# Altium footprint library 44PW_L-UM.PcbLib: 1 footprints
Each footprint in its own frame and in the unit in brackets; x right, y up, seen from the top. Pads: shape width x height; smd on the part's side, far side on the other; paste and mask are expansions set on the pad; w line width, h text height; cw(c..) or ccw(c..) is an arc to the next point about the centre after c.
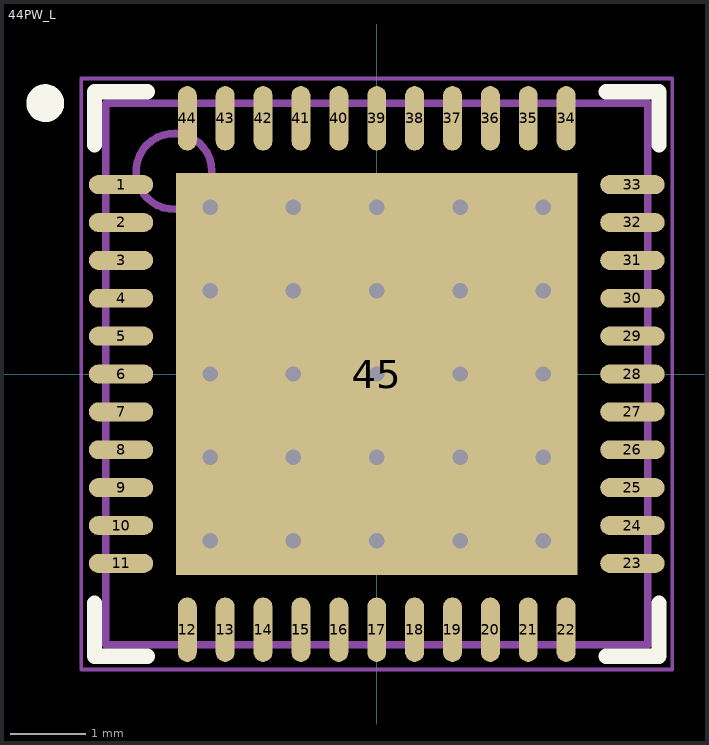
[diagram p0: the footprint, top view; thin cyan lines are the x and y axes]

## 44PW_L [mm] "QFN, 44-Leads, Body 7x7mm, Pitch 0.5mm, Thermal Pad 5.3x5.3mm, IPC High Density"
height 0.9
pads (45):
  oval 0.85x0.25 smd: 1(-3.375,2.5) 2(-3.375,2) 3(-3.375,1.5) 4(-3.375,1) 5(-3.375,0.5) 6(-3.375,0) 7(-3.375,-0.5) 8(-3.375,-1) 9(-3.375,-1.5) 10(-3.375,-2) 11(-3.375,-2.5) 23(3.375,-2.5) 24(3.375,-2) 25(3.375,-1.5) 26(3.375,-1) 27(3.375,-0.5) 28(3.375,0) 29(3.375,0.5) 30(3.375,1) 31(3.375,1.5) 32(3.375,2) 33(3.375,2.5)
  oval 0.25x0.85 smd: 12(-2.5,-3.375) 13(-2,-3.375) 14(-1.5,-3.375) 15(-1,-3.375) 16(-0.5,-3.375) 17(0,-3.375) 18(0.5,-3.375) 19(1,-3.375) 20(1.5,-3.375) 21(2,-3.375) 22(2.5,-3.375) 34(2.5,3.375) 35(2,3.375) 36(1.5,3.375) 37(1,3.375) 38(0.5,3.375) 39(0,3.375) 40(-0.5,3.375) 41(-1,3.375) 42(-1.5,3.375) 43(-2,3.375) 44(-2.5,3.375)
  rect 5.3x5.3 smd: 45(0,0)
via 2.2,-2.2 diameter 0.5 hole 0.203
via 1.1,-2.2 diameter 0.5 hole 0.203
via 0,-2.2 diameter 0.5 hole 0.203
via -1.1,-2.2 diameter 0.5 hole 0.203
via -2.2,-2.2 diameter 0.5 hole 0.203
via 2.2,-1.1 diameter 0.5 hole 0.203
via 1.1,-1.1 diameter 0.5 hole 0.203
via 0,-1.1 diameter 0.5 hole 0.203
via -1.1,-1.1 diameter 0.5 hole 0.203
via -2.2,-1.1 diameter 0.5 hole 0.203
via 2.2,0 diameter 0.5 hole 0.203
via 1.1,0 diameter 0.5 hole 0.203
via 0,0 diameter 0.5 hole 0.203
via -1.1,0 diameter 0.5 hole 0.203
via -2.2,0 diameter 0.5 hole 0.203
via 2.2,1.1 diameter 0.5 hole 0.203
via 1.1,1.1 diameter 0.5 hole 0.203
via 0,1.1 diameter 0.5 hole 0.203
via -1.1,1.1 diameter 0.5 hole 0.203
via -2.2,1.1 diameter 0.5 hole 0.203
via 2.2,2.2 diameter 0.5 hole 0.203
via 1.1,2.2 diameter 0.5 hole 0.203
via 0,2.2 diameter 0.5 hole 0.203
via -1.1,2.2 diameter 0.5 hole 0.203
via -2.2,2.2 diameter 0.5 hole 0.203
Top Overlay:
  circle w0.25: c-4.375,3.575 r0.125
  lines w0.2: -3.725,-3.025 -3.725,-3.725 -3.025,-3.725 ; -3.725,3.025 -3.725,3.725 -3.025,3.725 ; 3.025,-3.725 3.725,-3.725 3.725,-3.025 ; 3.025,3.725 3.725,3.725 3.725,3.025
Mechanical 13:
  circle w0.1: c-2.675,2.675 r0.5
  lines w0.1: -3.575,-3.575 3.575,-3.575 3.575,3.575 -3.575,3.575 -3.575,-3.575
Mechanical 15:
  lines w0.05: -3.9,-3.9 3.9,-3.9 3.9,3.9 -3.9,3.9 -3.9,-3.9
  lines w0.1: -0.5,0 0.5,0 ; 0,-0.5 0,0.5
3D body: height 0.9, standoff 0, extent -3.575,-3.575 3.575,3.575